# EAGLE library part SN75LVDS9637 (library texas-instruments)
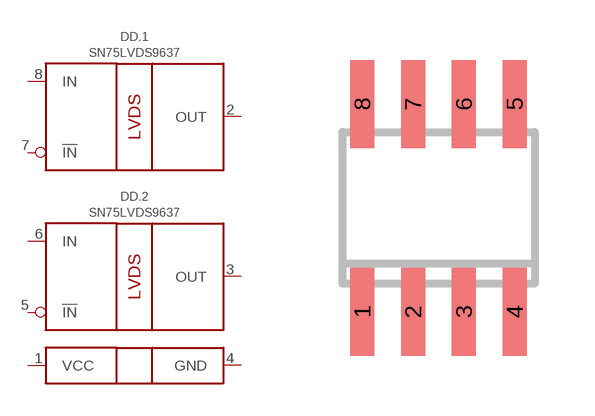
[diagram p4: symbol with the pads of SO08; footprint SO08]

Designator prefix DD; gates .1=SN75LVDS9637 .2=SN75LVDS9637 G$3=SN75LVDS_PWR

## SN75LVDS9637DGK  [SO08]
1  G$3:VCC  pwr
2  .1:OUT  out
3  .2:OUT  out
4  G$3:GND  pwr
5  .2:!IN  in
6  .2:IN  in
7  .1:!IN  in
8  .1:IN  in

## Footprint SO08 (pad centres in mm)
SMALL OUTLINE INTEGRATED CIRCUIT body 3.9 mm/JEDEC MS-012AA
smd 0.6 x 2.2: 1 -1.905,-2.6; 2 -0.635,-2.6; 3 0.635,-2.6; 4 1.905,-2.6; 5 1.905,2.6; 6 0.635,2.6; 7 -0.635,2.6; 8 -1.905,2.6